# Altium footprint library SR PCB Library V01.PcbLib: 402 footprints (part 19 of 26)
Each footprint in its own frame and in the unit in brackets; x right, y up, seen from the top. Pads: shape width x height; smd on the part's side, far side on the other; paste and mask are expansions set on the pad; w line width, h text height; cw(c..) or ccw(c..) is an arc to the next point about the centre after c.
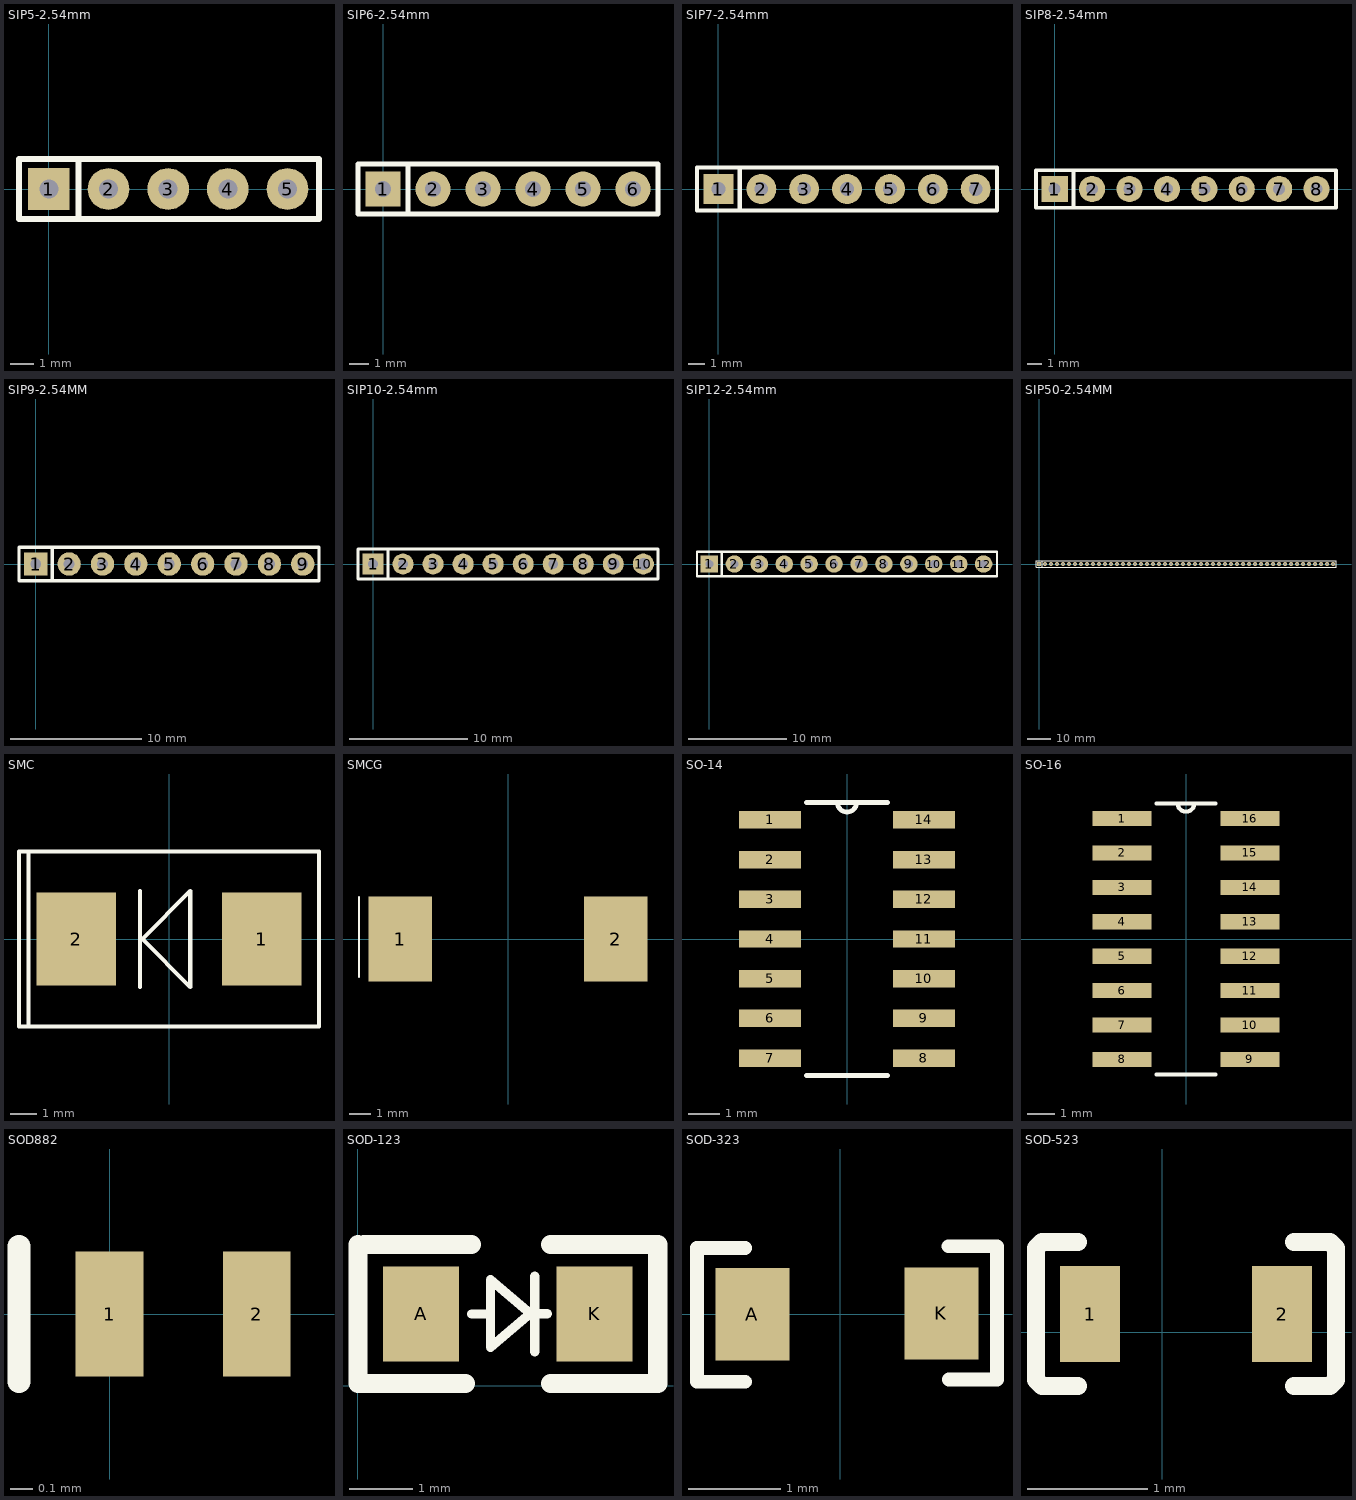
[diagram p18: the footprints below, top view; thin cyan lines are the x and y axes]

## SIP5-2.54mm [mil]
pads (5):
  rect 70x70 hole 32: 1(0,0)
  round 70 hole 32: 2(100,0) 3(200,0) 4(300,0) 5(400,0)
Top Overlay:
  lines w10: 50,-50 50,50 ; -50,-50 452.76,-50 452.76,50 -50,50 -50,-50

## SIP6-2.54mm [mil]
height 68.9
pads (6):
  rect 70x70 hole 32: 1(0,0)
  round 70 hole 32: 2(100,0) 3(200,0) 4(300,0) 5(400,0) 6(500,0)
Top Overlay:
  lines w10: 50,-50 50,50 ; -50,-50 550,-50 550,50 -50,50 -50,-50

## SIP7-2.54mm [mil]
pads (7):
  rect 70x70 hole 32: 1(0,0)
  round 70 hole 32: 2(100,0) 3(200,0) 4(300,0) 5(400,0) 6(500,0) 7(600,0)
Top Overlay:
  lines w10: 50,-50 50,50 ; -50,-50 649.61,-50 649.61,50 -50,50 -50,-50

## SIP8-2.54mm [mil]
pads (8):
  rect 70x70 hole 32: 1(0,0)
  round 70 hole 32: 2(100,0) 3(200,0) 4(300,0) 5(400,0) 6(500,0) 7(600,0) 8(700,0)
Top Overlay:
  lines w10: 50,-50 50,50 ; -50,-50 -50,50 751.97,50 751.97,-50 -50,-50

## SIP9-2.54MM [mil]
pads (9):
  rect 70x70 hole 32: 1(0,0)
  round 70 hole 32: 2(100,0) 3(200,0) 4(300,0) 5(400,0) 6(500,0) 7(600,0) 8(700,0) 9(800,0)
Top Overlay:
  lines w10: 50,-50 50,50 ; -50,-50 848.43,-50 848.43,50 -50,50 -50,-50

## SIP10-2.54mm [mil]
pads (10):
  rect 70x70 hole 32: 1(0,0)
  round 70 hole 32: 2(100,0) 3(200,0) 4(300,0) 5(400,0) 6(500,0) 7(600,0) 8(700,0)
  round 70 hole 40: 9(800,0) 10(900,0)
Top Overlay:
  lines w10: 50,-50 50,50 ; -50,-50 -50,50 948.82,50 948.82,-50 -50,-50

## SIP12-2.54mm [mil]
pads (12):
  rect 70x70 hole 32: 1(0,0)
  round 70 hole 32: 2(100,0) 3(200,0) 4(300,0) 5(400,0) 6(500,0) 7(600,0) 8(700,0) 9(800,0) 10(900,0) 11(1000,0) 12(1100,0)
Top Overlay:
  lines w10: 50,-50 50,50 ; -50,-50 -50,50 1153.54,50 1153.54,-50 -50,-50

## SIP50-2.54MM [mil]
pads (50):
  rect 70x70 hole 32: 1(0,0)
  round 70 hole 32: 2(100,0) 3(200,0) 4(300,0) 5(400,0) 6(500,0) 7(600,0) 8(700,0) 9(800,0) 10(900,0) 11(1000,0) 12(1100,0) 13(1200,0) 14(1300,0) 15(1400,0) 16(1500,0) 17(1600,0) 18(1700,0) 19(1800,0) 20(1900,0) 21(2000,0) 22(2100,0) 23(2200,0) 24(2300,0) 25(2400,0) 26(2500,0) 27(2600,0) 28(2700,0) 29(2800,0) 30(2900,0) 31(3000,0) 32(3100,0) 33(3200,0) 34(3300,0) 35(3400,0) 36(3500,0) 37(3600,0) 38(3700,0) 39(3800,0) 40(3900,0) 41(4000,0) 42(4100,0) 43(4200,0) 44(4300,0) 45(4400,0) 46(4500,0) 47(4600,0) 48(4700,0) 49(4800,0) 50(4900,0)
Top Overlay:
  lines w7.87: 4949.21,-50 4949.21,50
  lines w10: 50,-50 50,50 ; 4949.21,-50 -50,-50 -50,50 4949.21,50

## SMC [mm] "SMC"
pads (2):
  rect 3x3.5 smd: 1(3.5,0) 2(-3.5,0)
Top Overlay:
  lines w0.152: -5.3,-3.3 -5.3,3.3 ; -1.1,-1.8 -1.1,1.8 ; -5.65,-3.3 -5.65,3.3 5.65,3.3 5.65,-3.3 -5.65,-3.3 ; -1,0 0.8,-1.8 0.8,1.8 -1,0

## SMCG [mm]
pads (2):
  rect 3x4 smd: 1(-5.1,0) 2(5.1,0)
Top Overlay:
  lines w0.1: -7.052,-1.806 -7.052,1.978

## SO-14 [mil]
pads (14):
  rect 78x22 smd: 1(-97,150) 2(-97,100) 3(-97,50) 4(-97,0) 5(-97,-50) 6(-97,-100) 7(-97,-150) 8(97,-150) 9(97,-100) 10(97,-50) 11(97,0) 12(97,50) 13(97,100) 14(97,150)
Top Overlay:
  lines w6: -50.89,-172 50.89,-172 ; -50.89,172 50.89,172 ; -12,172 ccw(c0,172) 12,172
Mechanical 13:
  lines w0: -12,172 ccw(c0,172) 12,172
3D body: height 69.1, standoff 0, extent -121,-172 123,172

## SO-16 [mil]
height 377.95
pads (16):
  rect 86x22 smd: 1(-93,175) 2(-93,125) 3(-93,75) 4(-93,25) 5(-93,-25) 6(-93,-75) 7(-93,-125) 8(-93,-175) 9(93,-175) 10(93,-125) 11(93,-75) 12(93,-25) 13(93,25) 14(93,75) 15(93,125) 16(93,175)
Top Overlay:
  lines w6: -42.89,-197 42.89,-197 ; -42.89,197 42.89,197 ; -12,197 ccw(c0,197) 12,197
3D body: height 69.1, standoff 0, extent -123,-199 121,195

## SOD882 [mm]
pads (2):
  rect 0.3x0.55 smd: 1(0,0) 2(0.65,0)
Top Overlay:
  lines w0.1: -0.4,-0.3 -0.4,0.3

## SOD-123 [mm]
height 1.75
pads (2):
  rect 1.2x1.5 smd: A(1.003,1.136) K(3.753,1.136)
Top Overlay:
  lines w0.15: 1.803,1.136 2.103,1.136 ; 2.733,1.145 2.103,1.678 2.103,0.609 2.735,1.143 ; 2.803,0.536 2.803,1.736 ; 2.803,1.143 3.003,1.143
  lines w0.305: 0.003,2.236 0.003,0.036 1.708,0.036 ; 0.098,2.236 1.803,2.236 ; 3.053,0.036 4.758,0.036 ; 3.053,2.236 4.753,2.236 4.753,0.036

## SOD-323 [mm]
height 2
pads (2):
  rect 0.8x1 smd: A(-0.95,0) K(1.098,0.009)
Top Overlay:
  lines w0.15: -1.027,-0.73 -1.55,-0.73 -1.55,0.717 -1.027,0.717 ; 1.173,0.737 1.7,0.737 1.7,-0.705 1.179,-0.705

## SOD-523 [mm]
pads (2):
  rect 0.5x0.8 smd: 1(-0.6,0.15) 2(1,0.15)
Top Overlay:
  lines w0.15: -0.7,-0.45 -1,-0.45 -1.05,-0.4 -1.05,0.7 -1,0.75 -0.7,0.75 ; 1.1,-0.45 1.4,-0.45 1.45,-0.4 1.45,0.7 1.4,0.75 1.1,0.75